# Altium schematic symbol library SST26VF064B.SchLib: 1 symbol
Pins are listed as number, name and electrical type; pins without a type are passive.

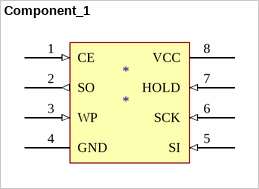
[diagram p0: symbol Component_1]

## Component_1
designator *
footprint SOP8
pins: 1 CE (in), 2 SO  (out), 3 WP (in), 4 GND (power), 5 SI (in), 6 SCK (in), 7 HOLD (in), 8 VCC (power)